# Altium footprint library Crystals.PcbLib: 1 footprints
Each footprint in its own frame and in the unit in brackets; x right, y up, seen from the top. Pads: shape width x height; smd on the part's side, far side on the other; paste and mask are expansions set on the pad; w line width, h text height; cw(c..) or ccw(c..) is an arc to the next point about the centre after c.
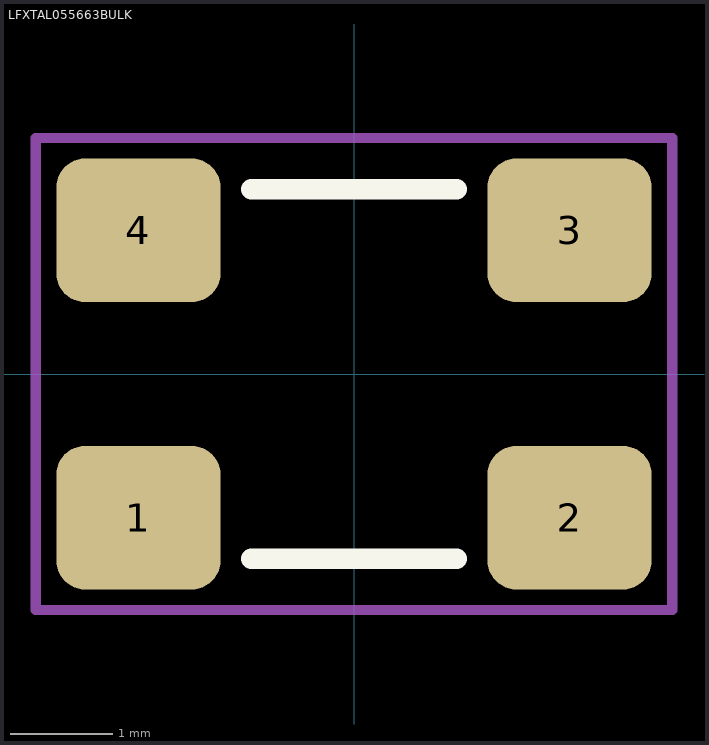
[diagram p0: the footprint, top view; thin cyan lines are the x and y axes]

## LFXTAL055663BULK [mm]
height 2.4
pads (4):
  rrect40% 1.6x1.4 smd paste-0.05: 1(-2.1,-1.4) 2(2.1,-1.4) 3(2.1,1.4) 4(-2.1,1.4)
Top Overlay:
  lines w0.2: -1,-1.8 1,-1.8 ; -1,1.8 1,1.8
Mechanical 15:
  lines w0.1: -3.1,-2.3 3.1,-2.3 3.1,2.3 -3.1,2.3 -3.1,-2.3
Assembly:
  lines w0.1: -3.1,-2.3 -3.1,2.3 3.1,2.3 3.1,-2.3 -3.1,-2.3
  text ".Designator" at -2.2,-0.3 h1.1
3D body: height 1, standoff 0.05, extent -2.5,-1.6 2.5,1.6